# EAGLE library part MC68230FN (library micro-mc68000)
68xxx PROCESSOR
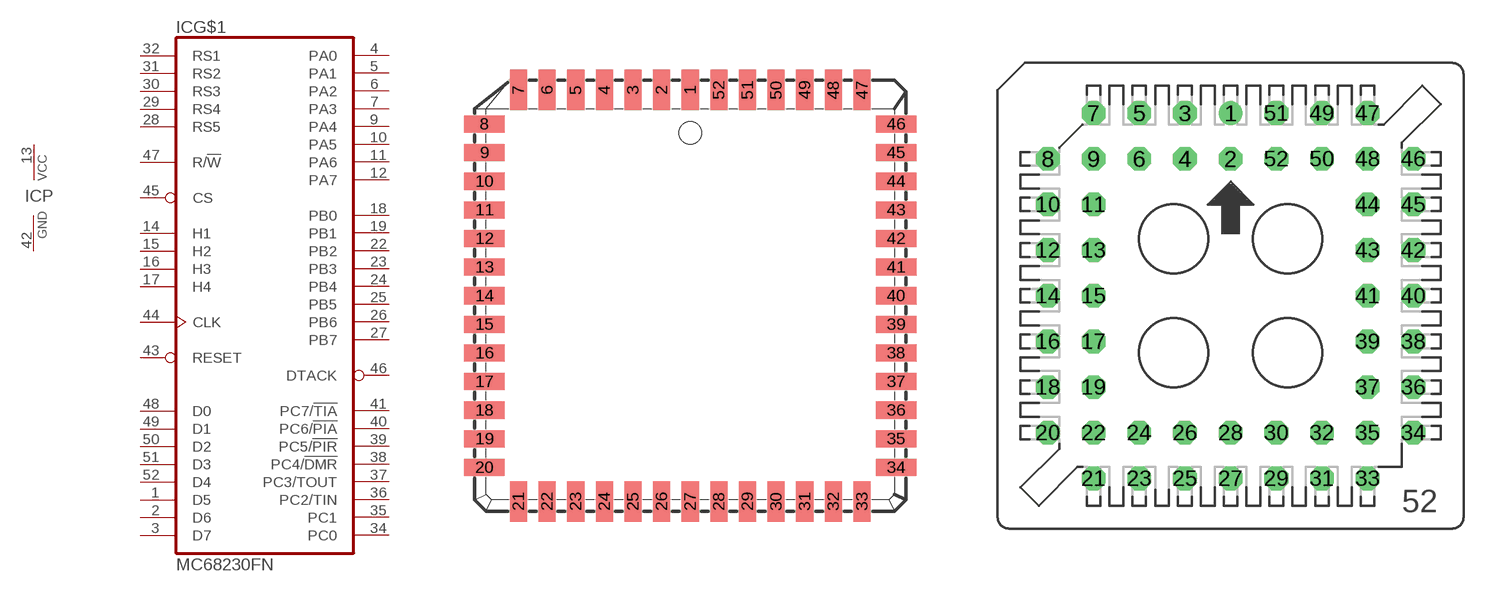
[diagram p3: symbol with the pads of PLCC52; footprints PLCC52, PLCC52-S]

Designator prefix IC; gates G$1=68230 P=PWRN

## MC68230FN  [PLCC52]
1  G$1:D5
2  G$1:D6
3  G$1:D7
4  G$1:PA0
5  G$1:PA1
6  G$1:PA2
7  G$1:PA3
9  G$1:PA4
10  G$1:PA5
11  G$1:PA6
12  G$1:PA7
13  P:VCC  pwr
14  G$1:H1  in
15  G$1:H2
16  G$1:H3  in
17  G$1:H4
18  G$1:PB0
19  G$1:PB1
22  G$1:PB2
23  G$1:PB3
24  G$1:PB4
25  G$1:PB5
26  G$1:PB6
27  G$1:PB7
28  G$1:RS5  in
29  G$1:RS4  in
30  G$1:RS3  in
31  G$1:RS2  in
32  G$1:RS1  in
34  G$1:PC0
35  G$1:PC1
36  G$1:PC2/TIN
37  G$1:PC3/TOUT
38  G$1:PC4/!DMR
39  G$1:PC5/!PIR
40  G$1:PC6/!PIA
41  G$1:PC7/!TIA
42  P:GND  pwr
43  G$1:RESET  in
44  G$1:CLK  in
45  G$1:CS  in
46  G$1:DTACK  out
47  G$1:R/!W  in
48  G$1:D0
49  G$1:D1
50  G$1:D2
51  G$1:D3
52  G$1:D4

## MC68230FN-SOC  [PLCC52-S]
Pads as for PLCC52

## Footprint PLCC52 (pad centres in mm)
PLASTIC LEADED CHIP CARRIER square
smd 0.76 x 1.8: 1 0,9.13; 2 -1.27,9.13; 3 -2.54,9.13; 4 -3.81,9.13; 5 -5.08,9.13; 6 -6.35,9.13; 7 -7.62,9.13; 21 -7.62,-9.13; 22 -6.35,-9.13; 23 -5.08,-9.13; 24 -3.81,-9.13; 25 -2.54,-9.13; 26 -1.27,-9.13; 27 0,-9.13; 28 1.27,-9.13; 29 2.54,-9.13; 30 3.81,-9.13; 31 5.08,-9.13; 32 6.35,-9.13; 33 7.62,-9.13; 47 7.62,9.13; 48 6.35,9.13; 49 5.08,9.13; 50 3.81,9.13; 51 2.54,9.13; 52 1.27,9.13
smd 1.8 x 0.76: 8 -9.13,7.62; 9 -9.13,6.35; 10 -9.13,5.08; 11 -9.13,3.81; 12 -9.13,2.54; 13 -9.13,1.27; 14 -9.13,0; 15 -9.13,-1.27; 16 -9.13,-2.54; 17 -9.13,-3.81; 18 -9.13,-5.08; 19 -9.13,-6.35; 20 -9.13,-7.62; 34 9.13,-7.62; 35 9.13,-6.35; 36 9.13,-5.08; 37 9.13,-3.81; 38 9.13,-2.54; 39 9.13,-1.27; 40 9.13,0; 41 9.13,1.27; 42 9.13,2.54; 43 9.13,3.81; 44 9.13,5.08; 45 9.13,6.35; 46 9.13,7.62

## Footprint PLCC52-S (pad centres in mm)
PLCC Socked
drill 0.813 round: 1 0,10.16
drill 0.813 octagon: 2 0,7.62; 3 -2.54,10.16; 4 -2.54,7.62; 5 -5.08,10.16; 6 -5.08,7.62; 7 -7.62,10.16; 8 -10.16,7.62; 9 -7.62,7.62; 10 -10.16,5.08; 11 -7.62,5.08; 12 -10.16,2.54; 13 -7.62,2.54; 14 -10.16,0; 15 -7.62,0; 16 -10.16,-2.54; 17 -7.62,-2.54; 18 -10.16,-5.08; 19 -7.62,-5.08; 20 -10.16,-7.62; 21 -7.62,-10.16; 22 -7.62,-7.62; 23 -5.08,-10.16; 24 -5.08,-7.62; 25 -2.54,-10.16; 26 -2.54,-7.62; 27 0,-10.16; 28 0,-7.62; 29 2.54,-10.16; 30 2.54,-7.62; 31 5.08,-10.16; 32 5.08,-7.62; 33 7.62,-10.16; 34 10.16,-7.62; 35 7.62,-7.62; 36 10.16,-5.08; 37 7.62,-5.08; 38 10.16,-2.54; 39 7.62,-2.54; 40 10.16,0; 41 7.62,0; 42 10.16,2.54; 43 7.62,2.54; 44 7.62,5.08; 45 10.16,5.08; 46 10.16,7.62; 47 7.62,10.16; 48 7.62,7.62; 49 5.08,10.16; 50 5.08,7.62; 51 2.54,10.16; 52 2.54,7.62